# EAGLE library part ZXBM5210 (library zkseagle)
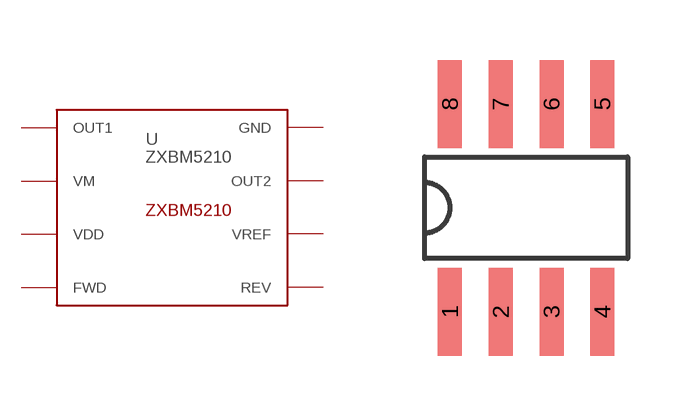
[diagram p26: symbol with the pads of SO8; footprint SO8]

Designator prefix -

## ZXBM5210  [SO8]
1  OUT1  out
2  VM  pwr
3  VDD  pwr
4  FWD  in
5  REV  in
6  VREF  in
7  OUT2  out
8  GND  pwr

## Footprint SO8 (pad centres in mm)
SMALL OUTLINE INTEGRATED CIRCUIT SOP-8L Source: http://www.diodes.com/datasheets/ds31262.pdf
smd 0.6 x 2.2: 1 -1.905,-2.6; 2 -0.635,-2.6; 3 0.635,-2.6; 4 1.905,-2.6; 5 1.905,2.6; 6 0.635,2.6; 7 -0.635,2.6; 8 -1.905,2.6